# Altium schematic symbol library BJT_PNP.SchLib: 1 symbol
Pins are listed as number, name and electrical type; pins without a type are passive.

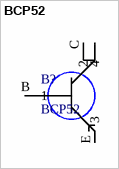
[diagram p0: symbol BCP52]

## BCP52
designator B?
onsemi
footprint PCBComponent_1
pins: B 1, C 2, C 4, E 3